# EAGLE library part К1986ВЕ1QI (library mcu)
АЕЯР.431280.860 ТУ К1986ВЕ1IQ - это 32-разрядный микроконтроллер на ядре Cortex-M1 с тактовой частотой до 144 МГц в пластиковом корпусе LQFP-144. Содержит 128 Кбайт Flash памяти программ и 48 Кбайт ОЗУ. Производитель: АО "ПКК "Миландр", г. Москва, Зеленоград. Технические условия: АЕЯР.431280.860 ТУ
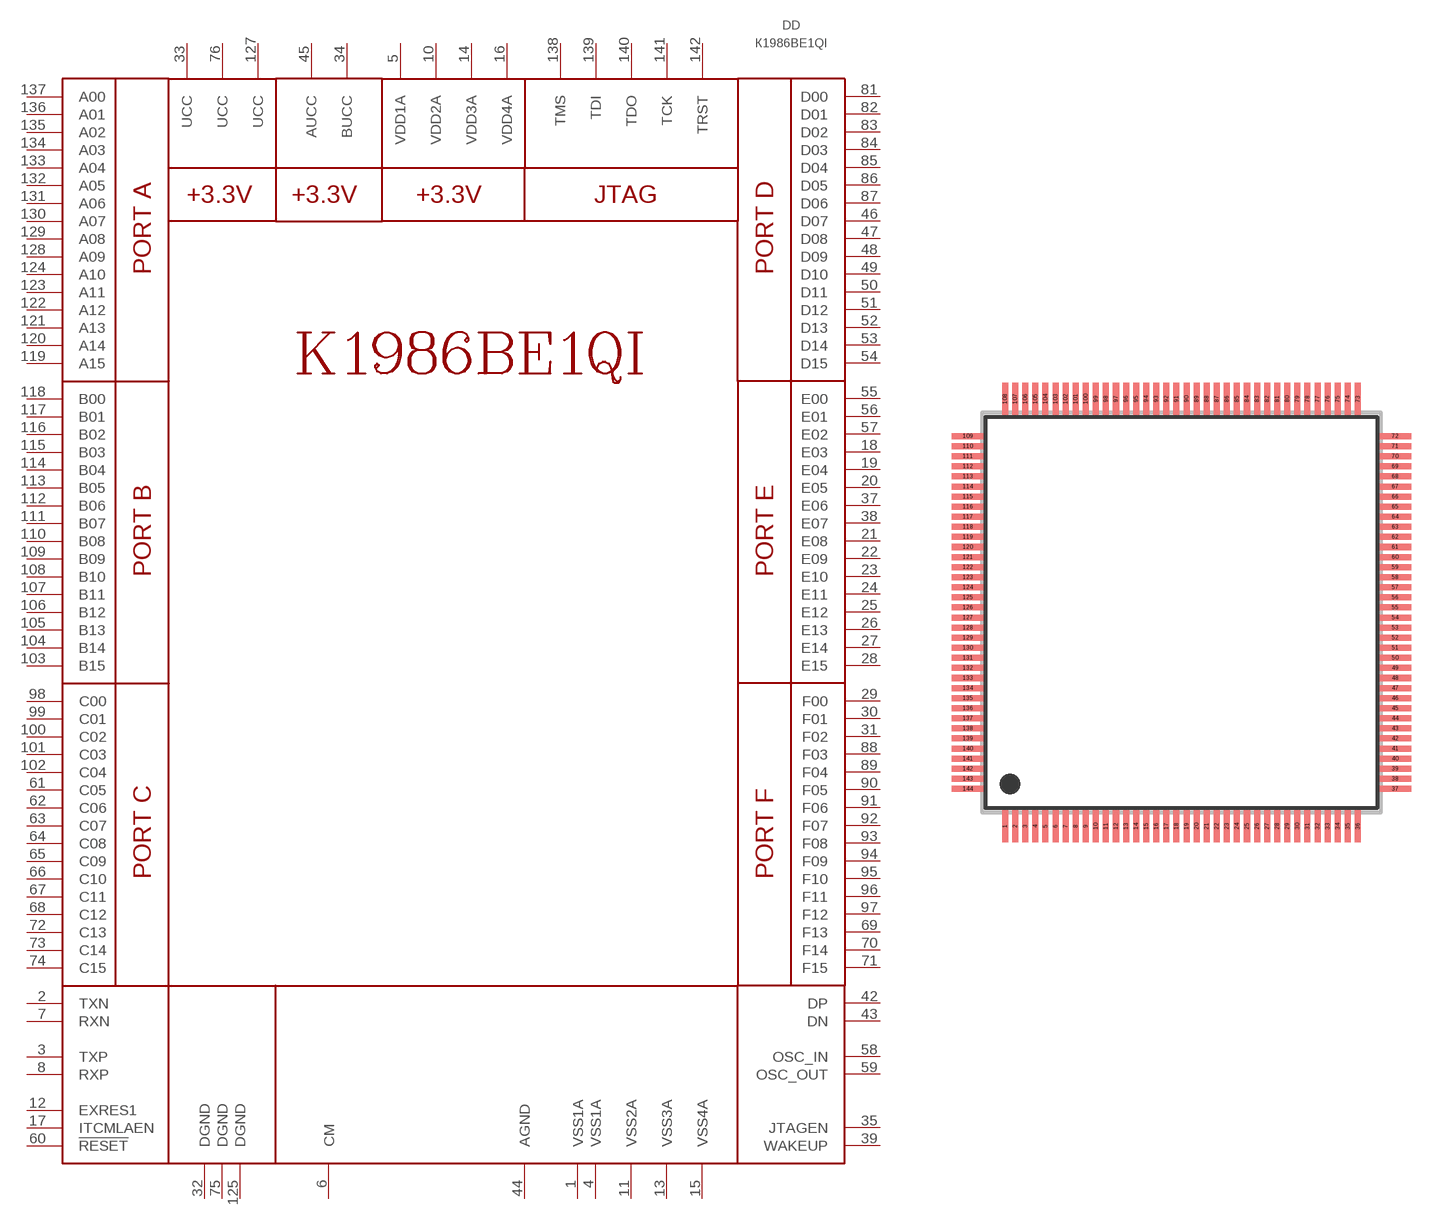
[diagram p2: symbol with the pads of LQFP144; footprint LQFP144]

Designator prefix DD

## К1986ВЕ1QI  [LQFP144]
1  VSS1A
2  TXN
3  TXP
4  VSS1A
5  VDD1A
6  CM  pwr
7  RXN
8  RXP
10  VDD2A
11  VSS2A
12  EXRES1
13  VSS3A
14  VDD3A
15  VSS4A
16  VDD4A
17  ITCMLAEN
18  E03
19  E04
20  E05
21  E08
22  E09
23  E10
24  E11
25  E12
26  E13
27  E14
28  E15
29  F00
30  F01
31  F02
32  DGND  pwr
33  UCC  pwr
34  BUCC  pwr
35  JTAGEN
37  E06
38  E07
39  WAKEUP
42  DP
43  DN
44  AGND  pwr
45  AUCC  pwr
46  D07
47  D08
48  D09
49  D10
50  D11
51  D12
52  D13
53  D14
54  D15
55  E00
56  E01
57  E02
58  OSC_IN
59  OSC_OUT
60  !RESET
61  C05
62  C06
63  C07
64  C08
65  C09
66  C10
67  C11
68  C12
69  F13
70  F14
71  F15
72  C13
73  C14
74  C15
75  DGND  pwr
76  UCC  pwr
81  D00
82  D01
83  D02
84  D03
85  D04
86  D05
87  D06
88  F03
89  F04
90  F05
91  F06
92  F07
93  F08
94  F09
95  F10
96  F11
97  F12
98  C00
99  C01
100  C02
101  C03
102  C04
103  B15
104  B14
105  B13
106  B12
107  B11
108  B10
109  B09
110  B08
111  B07
112  B06
113  B05
114  B04
115  B03
116  B02
117  B01
118  B00
119  A15
120  A14
121  A13
122  A12
123  A11
124  A10
125  DGND  pwr
127  UCC  pwr
128  A09
129  A08
130  A07
131  A06
132  A05
133  A04
134  A03
135  A02
136  A01
137  A00
138  TMS
139  TDI
140  TDO
141  TCK
142  TRST

## Footprint LQFP144 (pad centres in mm)
QFP144 shrink quad flat pack, square
smd 0.3 x 1.6: 1 -8.75,-10.6; 2 -8.25,-10.6; 3 -7.75,-10.6; 4 -7.25,-10.6; 5 -6.75,-10.6; 6 -6.25,-10.6; 7 -5.75,-10.6; 8 -5.25,-10.6; 9 -4.75,-10.6; 10 -4.25,-10.6; 11 -3.75,-10.6; 12 -3.25,-10.6; 13 -2.75,-10.6; 14 -2.25,-10.6; 15 -1.75,-10.6; 16 -1.25,-10.6; 17 -0.75,-10.6; 18 -0.25,-10.6; 19 0.25,-10.6; 20 0.75,-10.6; 21 1.25,-10.6; 22 1.75,-10.6; 23 2.25,-10.6; 24 2.75,-10.6; 25 3.25,-10.6; 26 3.75,-10.6; 27 4.25,-10.6; 28 4.75,-10.6; 29 5.25,-10.6; 30 5.75,-10.6; 31 6.25,-10.6; 32 6.75,-10.6; 33 7.25,-10.6; 34 7.75,-10.6; 35 8.25,-10.6; 36 8.75,-10.6; 73 8.75,10.6; 74 8.25,10.6; 75 7.75,10.6; 76 7.25,10.6; 77 6.75,10.6; 78 6.25,10.6; 79 5.75,10.6; 80 5.25,10.6; 81 4.75,10.6; 82 4.25,10.6; 83 3.75,10.6; 84 3.25,10.6; 85 2.75,10.6; 86 2.25,10.6; 87 1.75,10.6; 88 1.25,10.6; 89 0.75,10.6; 90 0.25,10.6; 91 -0.25,10.6; 92 -0.75,10.6; 93 -1.25,10.6; 94 -1.75,10.6; 95 -2.25,10.6; 96 -2.75,10.6; 97 -3.25,10.6; 98 -3.75,10.6; 99 -4.25,10.6; 100 -4.75,10.6; 101 -5.25,10.6; 102 -5.75,10.6; 103 -6.25,10.6; 104 -6.75,10.6; 105 -7.25,10.6; 106 -7.75,10.6; 107 -8.25,10.6; 108 -8.75,10.6
smd 1.6 x 0.3: 37 10.6,-8.75; 38 10.6,-8.25; 39 10.6,-7.75; 40 10.6,-7.25; 41 10.6,-6.75; 42 10.6,-6.25; 43 10.6,-5.75; 44 10.6,-5.25; 45 10.6,-4.75; 46 10.6,-4.25; 47 10.6,-3.75; 48 10.6,-3.25; 49 10.6,-2.75; 50 10.6,-2.25; 51 10.6,-1.75; 52 10.6,-1.25; 53 10.6,-0.75; 54 10.6,-0.25; 55 10.6,0.25; 56 10.6,0.75; 57 10.6,1.25; 58 10.6,1.75; 59 10.6,2.25; 60 10.6,2.75; 61 10.6,3.25; 62 10.6,3.75; 63 10.6,4.25; 64 10.6,4.75; 65 10.6,5.25; 66 10.6,5.75; 67 10.6,6.25; 68 10.6,6.75; 69 10.6,7.25; 70 10.6,7.75; 71 10.6,8.25; 72 10.6,8.75; 109 -10.6,8.75; 110 -10.6,8.25; 111 -10.6,7.75; 112 -10.6,7.25; 113 -10.6,6.75; 114 -10.6,6.25; 115 -10.6,5.75; 116 -10.6,5.25; 117 -10.6,4.75; 118 -10.6,4.25; 119 -10.6,3.75; 120 -10.6,3.25; 121 -10.6,2.75; 122 -10.6,2.25; 123 -10.6,1.75; 124 -10.6,1.25; 125 -10.6,0.75; 126 -10.6,0.25; 127 -10.6,-0.25; 128 -10.6,-0.75; 129 -10.6,-1.25; 130 -10.6,-1.75; 131 -10.6,-2.25; 132 -10.6,-2.75; 133 -10.6,-3.25; 134 -10.6,-3.75; 135 -10.6,-4.25; 136 -10.6,-4.75; 137 -10.6,-5.25; 138 -10.6,-5.75; 139 -10.6,-6.25; 140 -10.6,-6.75; 141 -10.6,-7.25; 142 -10.6,-7.75; 143 -10.6,-8.25; 144 -10.6,-8.75